# Altium footprint library WE-UNIT.PcbLib: 4 footprints
Each footprint in its own frame and in the unit in brackets; x right, y up, seen from the top. Pads: shape width x height; smd on the part's side, far side on the other; paste and mask are expansions set on the pad; w line width, h text height; cw(c..) or ccw(c..) is an arc to the next point about the centre after c.
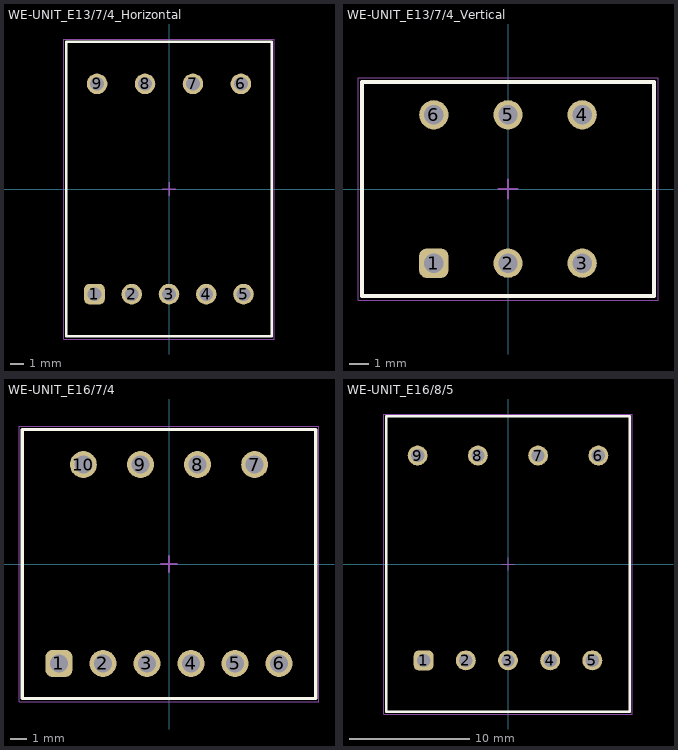
[diagram p0: the footprints below, top view; thin cyan lines are the x and y axes]

## WE-UNIT_E13/7/4_Horizontal [mm] "Off-Line Transformer, size E13/7/4, body 15x21.5mm"
height 12
pads (9):
  rrect50% 1.5x1.5 hole 1: 1(-5.44,-7.675)
  round 1.5 hole 1: 2(-2.72,-7.675) 3(0,-7.675) 4(2.72,-7.675) 5(5.44,-7.675) 6(5.25,7.675) 7(1.75,7.675) 8(-1.75,7.675) 9(-5.25,7.675)
Top Overlay:
  lines w0.2: -7.5,-10.75 7.5,-10.75 7.5,10.75 -7.5,10.75 -7.5,-10.75
Top Assembly:
  lines w0.1: -7.5,-10.75 7.5,-10.75 7.5,10.75 -7.5,10.75 -7.5,-10.75
Top Designator:
  text ".Designator" at -3.647,-0.357 h1
Top Courtyard:
  lines w0.05: -7.7,-10.95 7.7,-10.95 7.7,10.95 -7.7,10.95 -7.7,-10.95
Top Component Center:
  lines w0.1: -0.5,0 0.5,0 ; 0,-0.5 0,0.5
3D body "E13_Horizontal_7491181124.stp": height 10.15, standoff -3.45, extent -6.5,-9.75 6.5,9.75

## WE-UNIT_E13/7/4_Vertical [mm] "Off-Line Transformer, size E13/7/4, body 15x11mm"
height 16.8
pads (6):
  rrect50% 1.5x1.5 hole 1: 1(-3.81,-3.81)
  round 1.5 hole 1: 2(0,-3.81) 3(3.81,-3.81) 4(3.81,3.81) 5(0,3.81) 6(-3.81,3.81)
Top Overlay:
  lines w0.2: -7.5,-5.5 7.5,-5.5 7.5,5.5 -7.5,5.5 -7.5,-5.5
Top Assembly:
  lines w0.1: -7.5,-5.5 7.5,-5.5 7.5,5.5 -7.5,5.5 -7.5,-5.5
Top Designator:
  text ".Designator" at -3.647,-0.357 h1
Top Courtyard:
  lines w0.05: -7.7,-5.7 7.7,-5.7 7.7,5.7 -7.7,5.7 -7.7,-5.7
Top Component Center:
  lines w0.1: -0.5,0 0.5,0 ; 0,-0.5 0,0.5
3D body "E13_Vertical_7491181024.stp": height 16.85, standoff -3.45, extent -7.5,-5.5 7.5,5.5

## WE-UNIT_E16/7/4 [mm] "Off-Line Transformer, size E16/7/4, body 18x16.5mm"
height 18
pads (10):
  rrect50% 1.65x1.65 hole 1.1: 1(-6.75,-6.1)
  round 1.65 hole 1.1: 2(-4.05,-6.1) 3(-1.35,-6.1) 4(1.35,-6.1) 5(4.05,-6.1) 6(6.75,-6.1) 7(5.25,6.1) 8(1.75,6.1) 9(-1.75,6.1) 10(-5.25,6.1)
Top Overlay:
  lines w0.2: -9,-8.25 9,-8.25 9,8.25 -9,8.25 -9,-8.25
Top Assembly:
  lines w0.1: -9,-8.25 9,-8.25 9,8.25 -9,8.25 -9,-8.25
Top Designator:
  text ".Designator" at -3.647,-0.357 h1
Top Courtyard:
  lines w0.05: -9.2,-8.45 9.2,-8.45 9.2,8.45 -9.2,8.45 -9.2,-8.45
Top Component Center:
  lines w0.1: -0.5,0 0.5,0 ; 0,-0.5 0,0.5
3D body "E16_7_4_749118205.stp": height 18.1, standoff -4.9, extent -9,-8.25 9,8.25

## WE-UNIT_E16/8/5 [mm] "Off-Line Transformer, size E16/8/5, body 20.2x24.5mm"
height 16.5
pads (9):
  rrect50% 1.65x1.65 hole 1.1: 1(-7,-8)
  round 1.65 hole 1.1: 2(-3.5,-8) 3(0,-8) 4(3.5,-8) 5(7,-8) 6(7.5,9) 7(2.5,9) 8(-2.5,9) 9(-7.5,9)
Top Overlay:
  lines w0.2: -10.1,-12.25 -10.1,12.25 10.1,12.25 10.1,-12.25 -10.1,-12.25
Top Assembly:
  lines w0.1: -10.1,-12.25 10.1,-12.25 10.1,12.25 -10.1,12.25 -10.1,-12.25
Top Designator:
  text ".Designator" at -3.647,-0.357 h1
Top Courtyard:
  lines w0.05: -10.3,-12.45 -10.3,12.45 10.3,12.45 10.3,-12.45 -10.3,-12.45
Top Component Center:
  lines w0.1: -0.5,0 0.5,0 ; 0,-0.5 0,0.5
3D body "E16_8_5_7491182124.stp": height 15.05, standoff -3.35, extent -9.9,-11.9 9.9,11.9